# EAGLE library part ST-SIM-006M (library Seeed-OPL-2017-01-connector-edward)
320100004
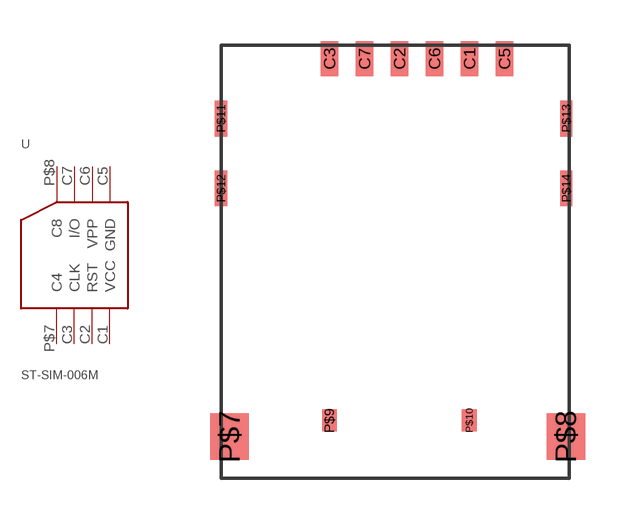
[diagram p7: symbol with the pads of ST-SIM-006M; footprint ST-SIM-006M]

Designator prefix -

## ST-SIM-006M  [ST-SIM-006M]
C1  VCC
C2  RST
C3  CLK
C5  GND
C6  VPP
C7  I/O
P$7  C4
P$8  C8

## Footprint ST-SIM-006M (pad centres in mm)
smd 0.635 x 1.27: C1 5.08,0; C2 2.54,0; C3 0,0; C5 6.35,0; C6 3.81,0; C7 1.27,0
smd 1.4 x 1.7: P$7 -3.625,-13.73; P$8 8.585,-13.73
smd 0.54 x 0.8: P$9 0,-13.14; P$10 5.08,-13.14
smd 0.45 x 1.3: P$11 -3.935,-2.17; P$12 -3.935,-4.71; P$13 8.595,-2.17; P$14 8.595,-4.71